# Altium schematic symbol library Diodes.SchLib: 6 symbols
Pins are listed as number, name and electrical type; pins without a type are passive.

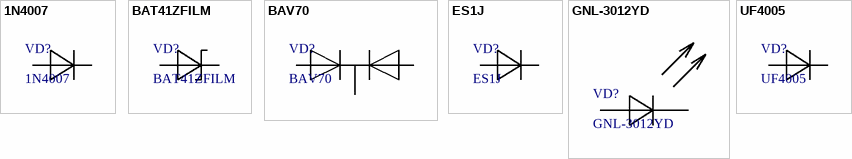
[diagram p0: symbols 1N4007 to UF4005]

## 1N4007
designator VD?
https://www.chipdip.ru/product/1n4007; spec: 1N4007, Диод выпрямительный 1А 1000В [DO-41]
footprint DO-41 (Diode, Axial; Body 5.2 x 2.7 mm (LxDia. max), Lead Dia. 0.86 mm (max))
pins: 1 C, 2 A

## BAT41ZFILM
designator VD?
BAT41ZFILM, Диод Шоттки 100V 200MA [SOD-123]; link: https://www.chipdip.ru/product/bat41zfilm-2
footprint SOD123
pins: 1 C, 2 A

## BAV70
designator VD?
https://www.chipdip.ru/product/bav70-umw
footprint SOT23-3 (SOT23, 3 pin)
pins: 1, 2, 3

## ES1J
designator VD?
ES1J (ER1J), Диод сверхбыстрый 1A 600В [SMA / DO-214AC]; link: https://www.chipdip.ru/product0/9001276116
footprint DO-214AC
pins: 1 C, 2 A

## GNL-3012YD
designator VD?
https://www.chipdip.ru/product/gnl-3012yd; spec: GNL-3012YD, Светодиод желтый 60° d=3мм 6мКд 585нМ (Yellow)
footprint LED_3012
pins: 1 C, 2 A

## UF4005
designator VD?
https://www.chipdip.ru/product/uf4005-diotec; spec: UF4005, Диод ультрабыстрый 1А 600В [DO-41 / DO-204AC]
footprint DO-41 (Diode, Axial; Body 5.2 x 2.7 mm (LxDia. max), Lead Dia. 0.86 mm (max))
pins: 1 C, 2 A